# EAGLE library part SP3222 (library paparazzi)
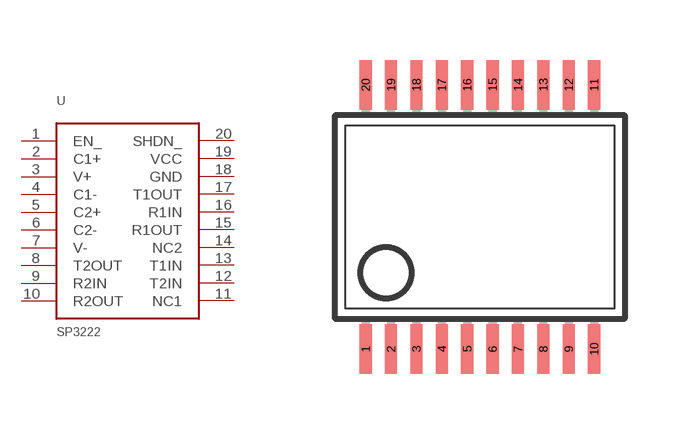
[diagram p23: symbol with the pads of SSOP20; footprint SSOP20]

Designator prefix -

## SP3222  [SSOP20]
1  EN_
2  C1+
3  V+
4  C1-
5  C2+
6  C2-
7  V-
8  T2OUT
9  R2IN
10  R2OUT
11  NC1
12  T2IN
13  T1IN
14  NC2
15  R1OUT
16  R1IN
17  T1OUT
18  GND
19  VCC
20  SHDN_

## Footprint SSOP20 (pad centres in mm)
Small Shrink Outline Package
smd 0.305 x 1.245: 1 -2.857,-3.302; 2 -2.222,-3.302; 3 -1.587,-3.302; 4 -0.952,-3.302; 5 -0.317,-3.302; 6 0.318,-3.302; 7 0.953,-3.302; 8 1.588,-3.302; 9 2.223,-3.302; 10 2.858,-3.302; 11 2.858,3.302; 12 2.223,3.302; 13 1.588,3.302; 14 0.953,3.302; 15 0.318,3.302; 16 -0.317,3.302; 17 -0.952,3.302; 18 -1.587,3.302; 19 -2.222,3.302; 20 -2.857,3.302